# EAGLE library part LTC2942-1 (library linear-technology)
1A Battery Gas Gauge Internal Sense Resistor and Temperature/Voltage Measurement
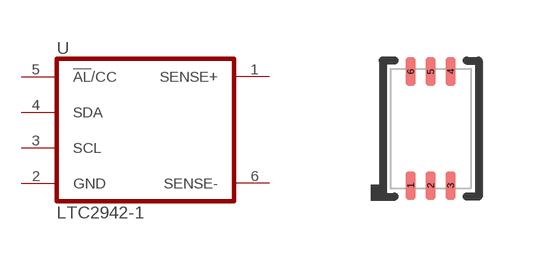
[diagram p54: symbol with the pads of DFN6-2X3; footprint DFN6-2X3]

Designator prefix U

## LTC2942-1  [DFN6-2X3]
1  SENSE+  in
2  GND  pwr
3  SCL  in
4  SDA
5  !AL!/CC
6  SENSE-  in

## Footprint DFN6-2X3 (pad centres in mm)
DCB Package 6-Lead Plastic DFN (2mm × 3mm) (Reference LTC DWG # 05-08-1715 Rev A)
smd 0.25 x 0.7: 1 -0.5,-1.425; 2 0,-1.425; 3 0.5,-1.425; 4 0.5,1.425; 5 0,1.425; 6 -0.5,1.425